# Altium schematic symbol library SCH - PASSIVES - CAPACITOR.SCHLIB: 3 symbols
Pins are listed as number, name and electrical type; pins without a type are passive.

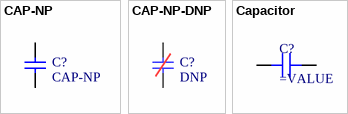
[diagram p0: symbols CAP-NP to Capacitor]

## CAP-NP
designator C?
pins: 1, 2

## CAP-NP-DNP
designator C?, comment DNP  (no BOM)
No-BoM capacitor
pins: 1, 2

## Capacitor
designator C?
SMT Capacitor
pins: 1, 2